# EAGLE library part SL-36 (library con_slot)
Слот на 36 контактов.
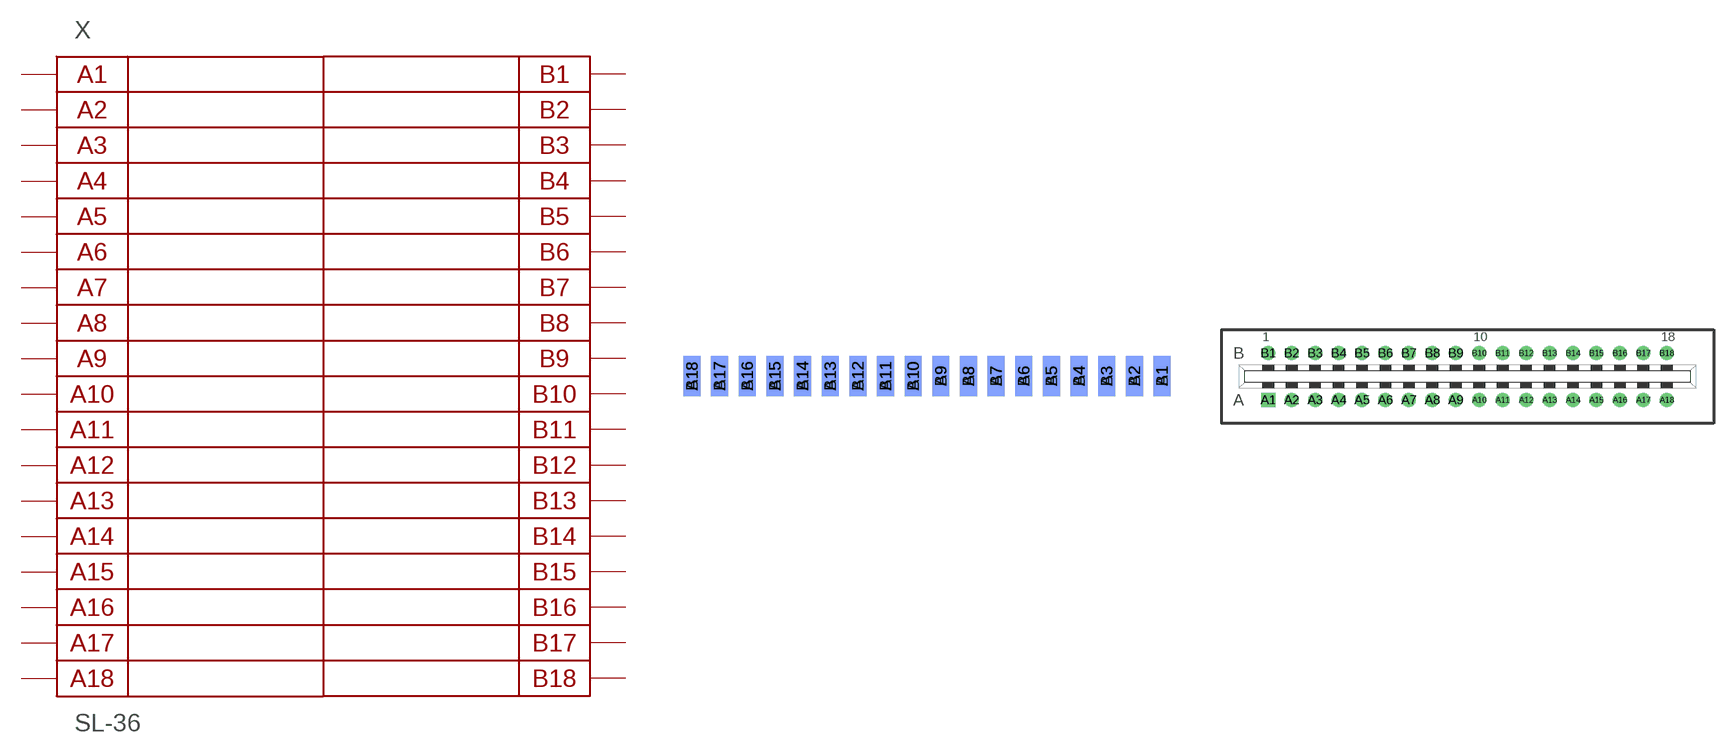
[diagram p0: symbol with the pads of CARD_SL36; footprints CARD_SL36, SL-36]

Designator prefix X

## SL-36_CARD  [CARD_SL36]
A1  A1
A2  A2
A3  A3
A4  A4
A5  A5
A6  A6
A7  A7
A8  A8
A9  A9
A10  A10
A11  A11
A12  A12
A13  A13
A14  A14
A15  A15
A16  A16
A17  A17
A18  A18
B1  B1
B2  B2
B3  B3
B4  B4
B5  B5
B6  B6
B7  B7
B8  B8
B9  B9
B10  B10
B11  B11
B12  B12
B13  B13
B14  B14
B15  B15
B16  B16
B17  B17
B18  B18

## SL-36_SLOT  [SL-36]
Pads as for CARD_SL36

## Footprint CARD_SL36 (pad centres in mm)
Краевой разъем. Сетка 0,1 мм. Контур края платы на слое Reference.
smd 1.524 x 3.683 bottom: A1 21.59,-4.699; A2 19.05,-4.699; A3 16.51,-4.699; A4 13.97,-4.699; A5 11.43,-4.699; A6 8.89,-4.699; A7 6.35,-4.699; A8 3.81,-4.699; A9 1.27,-4.699; A10 -1.27,-4.699; A11 -3.81,-4.699; A12 -6.35,-4.699; A13 -8.89,-4.699; A14 -11.43,-4.699; A15 -13.97,-4.699; A16 -16.51,-4.699; A17 -19.05,-4.699; A18 -21.59,-4.699
smd 1.524 x 3.683: B1 21.59,-4.699; B2 19.05,-4.699; B3 16.51,-4.699; B4 13.97,-4.699; B5 11.43,-4.699; B6 8.89,-4.699; B7 6.35,-4.699; B8 3.81,-4.699; B9 1.27,-4.699; B10 -1.27,-4.699; B11 -3.81,-4.699; B12 -6.35,-4.699; B13 -8.89,-4.699; B14 -11.43,-4.699; B15 -13.97,-4.699; B16 -16.51,-4.699; B17 -19.05,-4.699; B18 -21.59,-4.699

## Footprint SL-36 (pad centres in mm)
drill 1 pad 1.5 square: A1 -21.59,-2.54
drill 1 pad 1.5: A2 -19.05,-2.54; A3 -16.51,-2.54; A4 -13.97,-2.54; A5 -11.43,-2.54; A6 -8.89,-2.54; A7 -6.35,-2.54; A8 -3.81,-2.54; A9 -1.27,-2.54; A10 1.27,-2.54; A11 3.81,-2.54; A12 6.35,-2.54; A13 8.89,-2.54; A14 11.43,-2.54; A15 13.97,-2.54; A16 16.51,-2.54; A17 19.05,-2.54; A18 21.59,-2.54; B1 -21.59,2.54; B2 -19.05,2.54; B3 -16.51,2.54; B4 -13.97,2.54; B5 -11.43,2.54; B6 -8.89,2.54; B7 -6.35,2.54; B8 -3.81,2.54; B9 -1.27,2.54; B10 1.27,2.54; B11 3.81,2.54; B12 6.35,2.54; B13 8.89,2.54; B14 11.43,2.54; B15 13.97,2.54; B16 16.51,2.54; B17 19.05,2.54; B18 21.59,2.54